# Altium footprint library HDRV2W64P0X254_1X2_508X250X820P.PcbLib: 1 footprints
Each footprint in its own frame and in the unit in brackets; x right, y up, seen from the top. Pads: shape width x height; smd on the part's side, far side on the other; paste and mask are expansions set on the pad; w line width, h text height; cw(c..) or ccw(c..) is an arc to the next point about the centre after c.
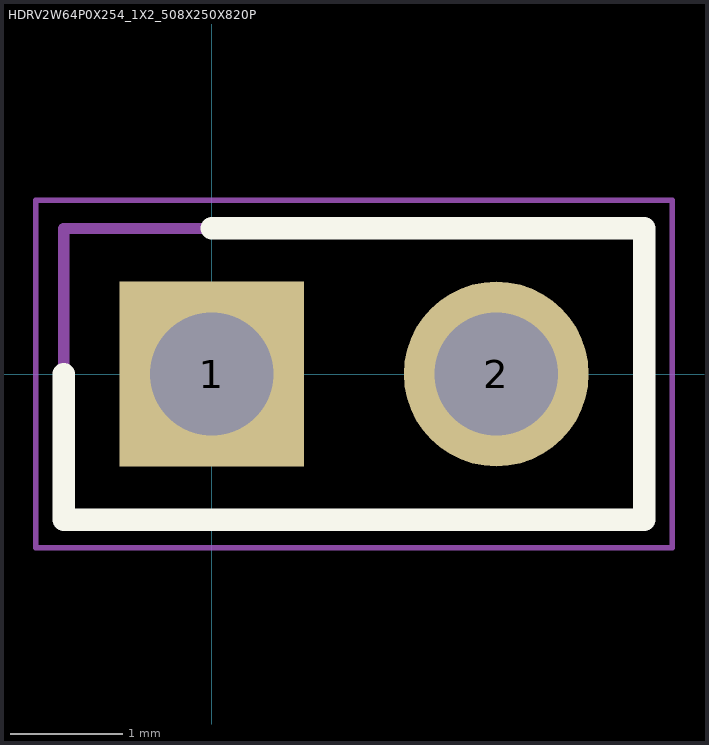
[diagram p0: the footprint, top view; thin cyan lines are the x and y axes]

## HDRV2W64P0X254_1X2_508X250X820P [mm]
pads (2):
  rect 1.65x1.65 / inner round 1.65 / far side rect 1.65x1.65 hole 1.1: 1(0,0)
  round 1.65 hole 1.1: 2(2.54,0)
Top Overlay:
  lines w0.2: -1.32,0 -1.32,-1.3 3.86,-1.3 3.86,1.3 0,1.3
Mechanical 15:
  lines w0.1: -1.32,-1.3 3.86,-1.3 3.86,1.3 -1.32,1.3 -1.32,-1.3
Mechanical 20:
  lines w0.05: -1.57,-1.55 4.11,-1.55 4.11,1.55 -1.57,1.55 -1.57,-1.55